# EAGLE library part QUAD-OPAMP (library Opamp)
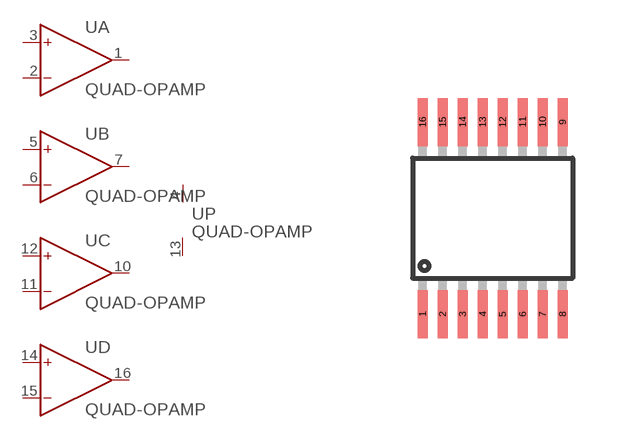
[diagram p1: symbol with the pads of MSOP16; footprint MSOP16]

Designator prefix U; gates A=OPAMP B=OPAMP C=OPAMP D=OPAMP P=OPAMP_PWR

## QUAD-OPAMP-MSOP16  [MSOP16]
1  A:OUT  out
2  A:IN-  in
3  A:IN+  in
4  P:V+  in
5  B:IN+  in
6  B:IN-  in
7  B:OUT  out
10  C:OUT  out
11  C:IN-  in
12  C:IN+  in
13  P:V-  in
14  D:IN+  in
15  D:IN-  in
16  D:OUT  out

## Footprint MSOP16 (pad centres in mm)
smd 0.25 x 1.2: 1 -1.75,-2.4; 2 -1.25,-2.4; 3 -0.75,-2.4; 4 -0.25,-2.4; 5 0.25,-2.4; 6 0.75,-2.4; 7 1.25,-2.4; 8 1.75,-2.4; 9 1.75,2.4; 10 1.25,2.4; 11 0.75,2.4; 12 0.25,2.4; 13 -0.25,2.4; 14 -0.75,2.4; 15 -1.25,2.4; 16 -1.75,2.4